# EAGLE library part SIL6 (library SIL_SST)
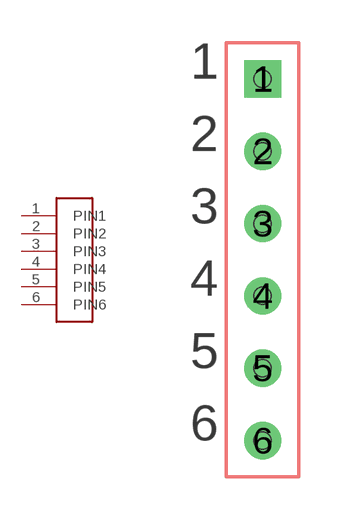
[diagram p0: symbol with the pads of SIL6; footprint SIL6]

Designator prefix -

## SIL6  [SIL6]
1  PIN1
2  PIN2
3  PIN3
4  PIN4
5  PIN5
6  PIN6

## Footprint SIL6 (pad centres in mm)
drill 0.8 square: 1 -60.96,3.81
drill 0.8: 2 -60.96,1.27; 3 -60.96,-1.27; 4 -60.96,-3.81; 5 -60.96,-6.35; 6 -60.96,-8.89
hole 0.6 at -60.96,3.81
hole 0.6 at -60.96,1.27
hole 0.6 at -60.96,-1.27
hole 0.6 at -60.96,-3.81
hole 0.6 at -60.96,-6.35
hole 0.6 at -60.96,-8.89